# Altium integrated library MUX36D04IPWR_footprint.IntLib: 1 symbol
Pins are listed as number, name and electrical type; pins without a type are passive.

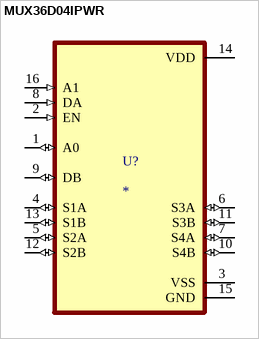
[diagram p0: symbol MUX36D04IPWR]

## MUX36D04IPWR
designator U?
MP: MUX36D04IPWR; Package: None; Price: None; Value: *; Availability: Unavailable
footprint SOP65P640X120-16N
pins: 1 A0 (io), 2 EN (in), 3 VSS (power), 4 S1A (io), 5 S2A (io), 6 S3A (io), 7 S4A (io), 8 DA (in), 9 DB (io), 10 S4B (io), 11 S3B (io), 12 S2B (io), 13 S1B (io), 14 VDD (power), 15 GND (power), 16 A1 (in)